# Altium footprint library CAPC1210(3225)100_N.PcbLib: 1 footprints
Each footprint in its own frame and in the unit in brackets; x right, y up, seen from the top. Pads: shape width x height; smd on the part's side, far side on the other; paste and mask are expansions set on the pad; w line width, h text height; cw(c..) or ccw(c..) is an arc to the next point about the centre after c.
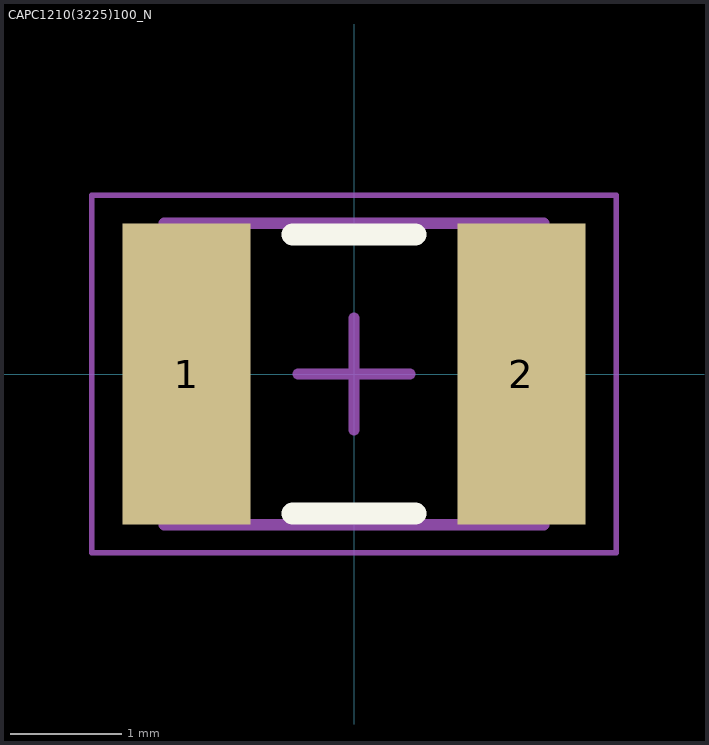
[diagram p0: the footprint, top view; thin cyan lines are the x and y axes]

## CAPC1210(3225)100_N [mm] "Chip Capacitor, Body 3.2x2.5mm, Height 1mm, IPC Medium Density"
height 1
pads (2):
  rect 1.15x2.7 smd: 1(-1.5,0) 2(1.5,0)
Top Overlay:
  lines w0.2: -0.55,-1.25 0.55,-1.25 ; -0.55,1.25 0.55,1.25
Mechanical 13:
  lines w0.1: -1.7,-1.35 -1.7,1.35 1.7,1.35 1.7,-1.35 -1.7,-1.35
Mechanical 15:
  lines w0.05: -2.35,-1.6 -2.35,1.6 2.35,1.6 2.35,-1.6 -2.35,-1.6
  lines w0.1: -0.5,0 0.5,0 ; 0,-0.5 0,0.5
3D body: height 1, standoff 0, extent -1.2,-1.35 1.2,1.35
3D body: height 1, standoff 0, extent -1.7,-1.35 -1.2,1.35
3D body: height 1, standoff 0, extent 1.2,-1.35 1.7,1.35